# Altium footprint library ProjectPCBLibrary.PcbLib: 8 footprints
Each footprint in its own frame and in the unit in brackets; x right, y up, seen from the top. Pads: shape width x height; smd on the part's side, far side on the other; paste and mask are expansions set on the pad; w line width, h text height; cw(c..) or ccw(c..) is an arc to the next point about the centre after c.
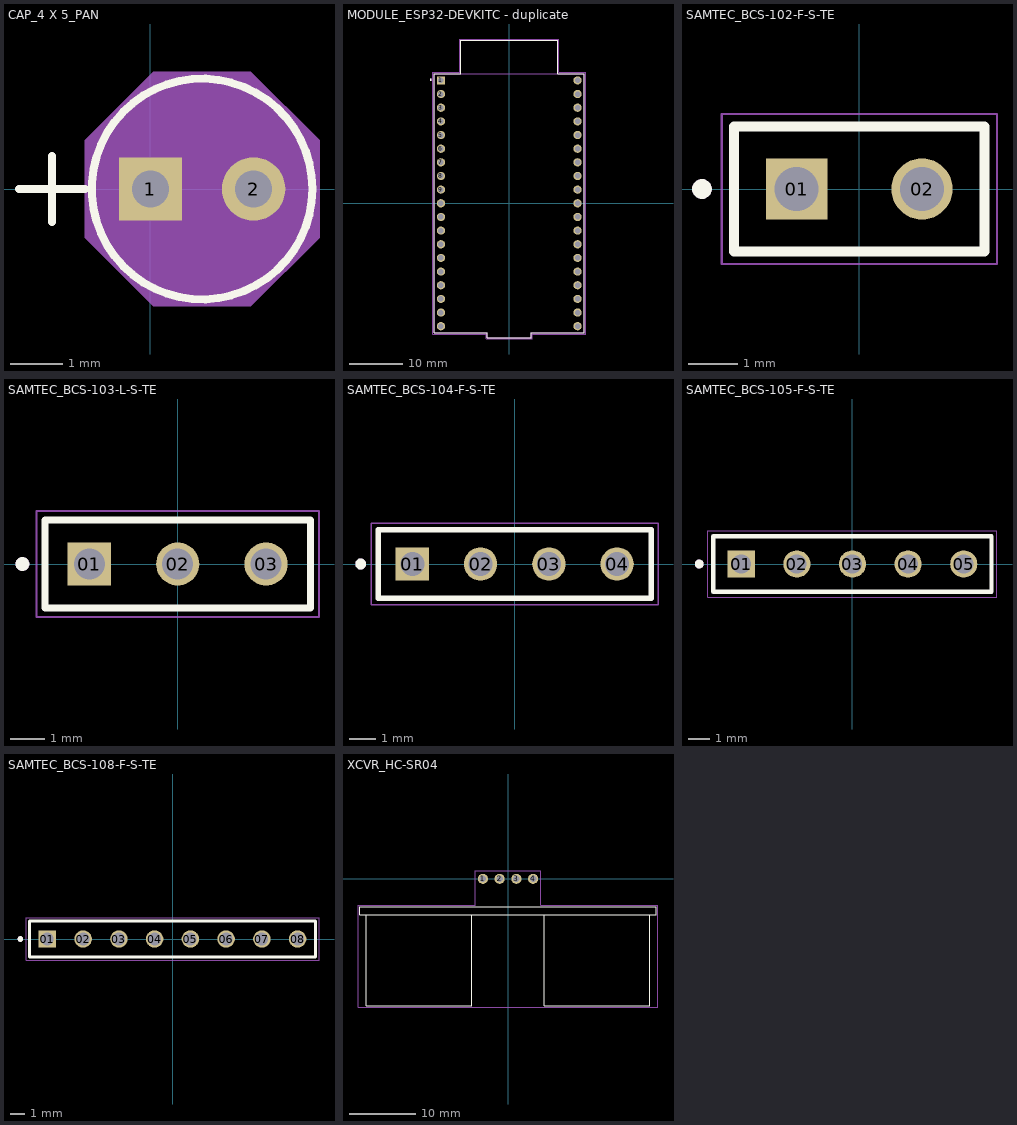
[diagram p0: the footprints below, top view; thin cyan lines are the x and y axes]

## CAP_4 X 5_PAN [mil]
pads (2):
  rect 48x48 / inner round 60 / far side rect 48x48 hole 28 paste-99999 mask+0: 1(0,0)
  round 48 / inner round 60 / far side round 48 hole 28 paste-99999 mask+0: 2(78,0)
Top Overlay:
  circle w6: c39,0 r83.5
  lines w6: -99.5,0 -49.5,0 ; -74.5,-25 -74.5,25
Mechanical 13:
  circle w0: c39,0 r78.5
  lines w1: -99.5,0 -49.5,0 ; -74.5,-25 -74.5,25
Mechanical 15:
  region: -49.5,36.44 2.56,88.5 75.44,88.5 127.5,36.44 127.5,-36.44 75.44,-88.5 2.56,-88.5 -49.5,-36.44
  lines w1: -49.5,-36.44 2.56,-88.5 75.44,-88.5 127.5,-36.44 127.5,36.44 75.44,88.5 2.56,88.5 -49.5,36.44 -49.5,-36.44
3D body "CAP_4X5_PAN.step": height 196.61, standoff -154.02, extent -39.49,-78.38 118.74,78.38

## MODULE_ESP32-DEVKITC - duplicate [mm]
pads (38):
  rect 1.53x1.53 / inner round 1.53 / far side rect 1.53x1.53 hole 1.02: 1(-12.7,22.85)
  round 1.53 hole 1.02: 2(-12.7,20.31) 3(-12.7,17.77) 4(-12.7,15.23) 5(-12.7,12.69) 6(-12.7,10.15) 7(-12.7,7.61) 8(-12.7,5.07) 9(-12.7,2.53) 10(-12.7,-0.01) 11(-12.7,-2.55) 12(-12.7,-5.09) 13(-12.7,-7.63) 14(-12.7,-10.17) 15(-12.7,-12.71) 16(-12.7,-15.25) 17(-12.7,-17.79) 18(-12.7,-20.33) 19(-12.7,-22.87) 20(12.7,-22.87) 21(12.7,-20.33) 22(12.7,-17.79) 23(12.7,-15.25) 24(12.7,-12.71) 25(12.7,-10.17) 26(12.7,-7.63) 27(12.7,-5.09) 28(12.7,-2.55) 29(12.7,-0.01) 30(12.7,2.53) 31(12.7,5.07) 32(12.7,7.61) 33(12.7,10.15) 34(12.7,12.69) 35(12.7,15.23) 36(12.7,17.77) 37(12.7,20.31) 38(12.7,22.85)
Top Overlay:
  circle w0.2: c-14.57,22.97 r0.1
  lines w0.127: -13.95,-24.1 -13.95,24.1 -9,24.1 -9,30.3 9,30.3 9,24.1 13.95,24.1 13.95,-24.1 4.06,-24.1 4.06,-25 -4.07,-25 -4.07,-24.1 -13.95,-24.1
Mechanical 13:
  circle w0.2: c-14.57,22.97 r0.1
  lines w0.127: -9,24.1 9,24.1 ; -9,24.1 -13.95,24.1 -13.95,-24.1 -4.07,-24.1 -4.07,-25 4.06,-25 4.06,-24.1 13.95,-24.1 13.95,24.1 9,24.1 ; -9,24.1 -9,30.3 9,30.3 9,24.1
Mechanical 15:
  lines w0.05: -14.2,-24.38 -14.2,24.38 -9.25,24.38 -9.25,30.55 9.25,30.55 9.25,24.38 14.2,24.38 14.2,-24.38 4.31,-24.38 4.31,-25.25 -4.32,-25.25 -4.32,-24.38 -14.2,-24.38
3D body "step_temp.STEP": height 3.25, standoff -9.44, extent -13.97,-24.8 13.97,30.3

## SAMTEC_BCS-102-F-S-TE [mm]
pads (2):
  rect 1.24x1.24 / inner round 1.24 / far side rect 1.24x1.24 hole 0.89: 01(-1.27,0)
  round 1.24 hole 0.89: 02(1.27,0)
Top Overlay:
  circle w0.2: c-3.19,0 r0.1
  lines w0.2: -2.54,-1.27 2.54,-1.27 2.54,1.27 -2.54,1.27 -2.54,-1.27
Mechanical 13:
  circle w0.2: c-3.19,0 r0.1
  lines w0.1: -2.54,-1.27 2.54,-1.27 2.54,1.27 -2.54,1.27 -2.54,-1.27
Mechanical 15:
  lines w0.05: -2.79,-1.52 2.79,-1.52 2.79,1.52 -2.79,1.52 -2.79,-1.52
3D body "BCS-102-F-S-TE.stp": height 7.37, standoff -3.1, extent -2.54,-1.27 2.54,1.27

## SAMTEC_BCS-103-L-S-TE [mm]
pads (3):
  rect 1.24x1.24 / inner round 1.24 / far side rect 1.24x1.24 hole 0.89: 01(-2.54,0)
  round 1.24 hole 0.89: 02(0,0) 03(2.54,0)
Top Overlay:
  circle w0.2: c-4.46,0 r0.1
  lines w0.2: -3.81,-1.27 3.81,-1.27 3.81,1.27 -3.81,1.27 -3.81,-1.27
Mechanical 13:
  circle w0.2: c-4.46,0 r0.1
  lines w0.1: -3.81,-1.27 3.81,-1.27 3.81,1.27 -3.81,1.27 -3.81,-1.27
Mechanical 15:
  lines w0.05: -4.06,-1.52 4.06,-1.52 4.06,1.52 -4.06,1.52 -4.06,-1.52
3D body "BCS-103-L-S-TE.stp": height 7.37, standoff -3.1, extent -3.81,-1.27 3.81,1.27

## SAMTEC_BCS-104-F-S-TE [mm]
pads (4):
  rect 1.24x1.24 / inner round 1.24 / far side rect 1.24x1.24 hole 0.89: 01(-3.81,0)
  round 1.24 hole 0.89: 02(-1.27,0) 03(1.27,0) 04(3.81,0)
Top Overlay:
  circle w0.2: c-5.73,0 r0.1
  lines w0.2: -5.08,-1.27 5.08,-1.27 5.08,1.27 -5.08,1.27 -5.08,-1.27
Mechanical 13:
  circle w0.2: c-5.73,0 r0.1
  lines w0.1: -5.08,-1.27 5.08,-1.27 5.08,1.27 -5.08,1.27 -5.08,-1.27
Mechanical 15:
  lines w0.05: -5.33,-1.52 5.33,-1.52 5.33,1.52 -5.33,1.52 -5.33,-1.52
3D body "BCS-104-F-S-TE.stp": height 7.37, standoff -3.1, extent -5.08,-1.27 5.08,1.27

## SAMTEC_BCS-105-F-S-TE [mm]
pads (5):
  rect 1.24x1.24 / inner round 1.24 / far side rect 1.24x1.24 hole 0.89: 01(-5.08,0)
  round 1.24 hole 0.89: 02(-2.54,0) 03(0,0) 04(2.54,0) 05(5.08,0)
Top Overlay:
  circle w0.2: c-7,0 r0.1
  lines w0.2: -6.35,-1.27 6.35,-1.27 6.35,1.27 -6.35,1.27 -6.35,-1.27
Mechanical 13:
  circle w0.2: c-7,0 r0.1
  lines w0.1: -6.35,-1.27 6.35,-1.27 6.35,1.27 -6.35,1.27 -6.35,-1.27
Mechanical 15:
  lines w0.05: -6.6,-1.52 6.6,-1.52 6.6,1.52 -6.6,1.52 -6.6,-1.52
3D body "BCS-105-F-S-TE.stp": height 7.37, standoff -3.1, extent -6.35,-1.27 6.35,1.27

## SAMTEC_BCS-108-F-S-TE [mm]
pads (8):
  rect 1.24x1.24 / inner round 1.24 / far side rect 1.24x1.24 hole 0.89: 01(-8.89,0)
  round 1.24 hole 0.89: 02(-6.35,0) 03(-3.81,0) 04(-1.27,0) 05(1.27,0) 06(3.81,0) 07(6.35,0) 08(8.89,0)
Top Overlay:
  circle w0.2: c-10.81,0 r0.1
  lines w0.2: -10.16,-1.27 10.16,-1.27 10.16,1.27 -10.16,1.27 -10.16,-1.27
Mechanical 13:
  circle w0.2: c-10.81,0 r0.1
  lines w0.1: -10.16,-1.27 10.16,-1.27 10.16,1.27 -10.16,1.27 -10.16,-1.27
Mechanical 15:
  lines w0.05: -10.41,-1.52 10.41,-1.52 10.41,1.52 -10.41,1.52 -10.41,-1.52
3D body "BCS-108-F-S-TE.stp": height 7.37, standoff -3.1, extent -10.16,-1.27 10.16,1.27

## XCVR_HC-SR04 [mm]
pads (4):
  round 1.53 hole 1.02: 1(-3.81,0) 2(-1.27,0) 3(1.27,0) 4(3.81,0)
Top Overlay:
  lines w0.127: -21.5,-5.47 -21.5,-19.27 -5.5,-19.27 -5.5,-5.47 ; -21.5,-5.47 -22.5,-5.47 -22.5,-4.27 22.5,-4.27 22.5,-5.47 21.5,-5.47 ; -21.5,-5.47 -5.5,-5.47 ; -5.5,-5.47 5.5,-5.47 ; 5.5,-5.47 5.5,-19.27 21.5,-19.27 21.5,-5.47 ; 5.5,-5.47 21.5,-5.47
Mechanical 15:
  lines w0.05: -22.75,-19.5 22.75,-19.5 22.75,-4 5,-4 5,1.25 -5,1.25 -5,-4 -22.75,-4 -22.75,-19.5
3D body "HC-SR04--3DModel-STEP-1.STEP": height 20, standoff -7.53, extent -22.5,-17.419 22.5,0.381